# EAGLE library part TERMINAL_BLOCK_7POS (library con-wago-508)
5.08 EUROSTYLE 2 PART TERMINAL BLOCK TE Connectivity: 796638-7
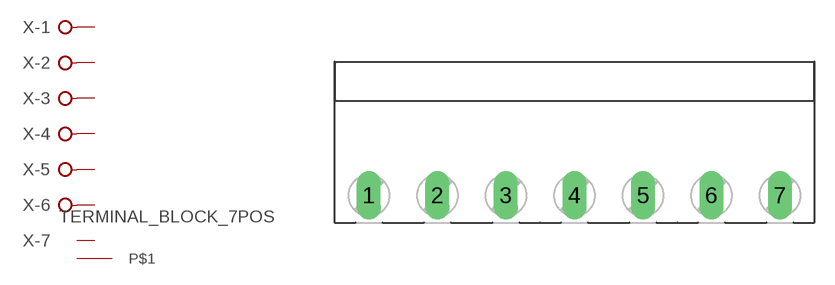
[diagram p1: symbol with the pads of TE_CONN_796638; footprint TE_CONN_796638]

Designator prefix X; gates -1=KL -2=KL -3=KL -4=KL -5=KL -6=KL -7=TE796638

## TERMINAL_BLOCK_7POS7POS (OC_FARNELL: unknown; OC_NEWARK: unknown)  [TE_CONN_796638]
1  -1:KL  pas
2  -2:KL  pas
3  -3:KL  pas
4  -4:KL  pas
5  -5:KL  pas
6  -6:KL  pas
7  -7:KL  pas

## Footprint TE_CONN_796638 (pad centres in mm)
WAGO SREW CLAMP
drill 1.194 long: 1 -15.24,0.015; 2 -10.16,0.015; 3 -5.08,0.015; 4 0,0.015; 5 5.08,0.015; 6 10.16,0.015; 7 15.24,0.015